# Altium schematic symbol library BUTTON.SchLib: 2 symbols
Pins are listed as number, name and electrical type; pins without a type are passive.

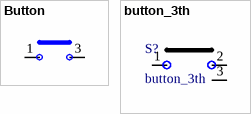
[diagram p0: symbols Button to button_3th]

## Button
designator S?, comment Tactile Switch 轻触开关  (value not drawn)
footprint button
pins: 1, 3

## button_3th
designator S?
三脚侧插轻触开关  4.5 * 4.5
footprint BUTTON_TH (轻触开关 三脚侧插)
pins: 1, 2, 3